# EAGLE library part BRICKBOARD_TSW_14X2 (library Dist_to_Brickboard_Connector)
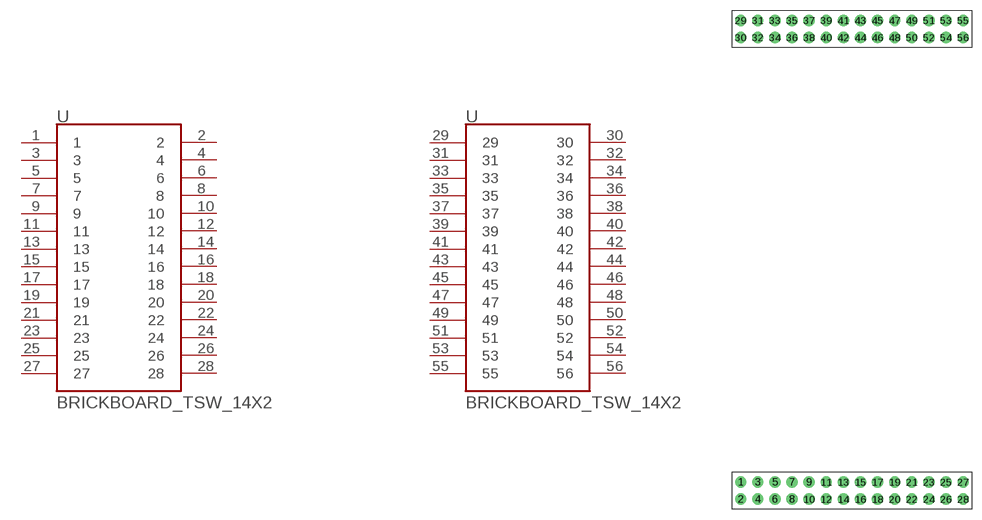
[diagram p0: symbol with the pads of BRICKBOARD_TSW_14X2; footprint BRICKBOARD_TSW_14X2]

Designator prefix -

## BRICKBOARD_TSW_14X2  [BRICKBOARD_TSW_14X2]
1  1
2  2
3  3
4  4
5  5
6  6
7  7
8  8
9  9
10  10
11  11
12  12
13  13
14  14
15  15
16  16
17  17
18  18
19  19
20  20
21  21
22  22
23  23
24  24
25  25
26  26
27  27
28  28
29  29
30  30
31  31
32  32
33  33
34  34
35  35
36  36
37  37
38  38
39  39
40  40
41  41
42  42
43  43
44  44
45  45
46  46
47  47
48  48
49  49
50  50
51  51
52  52
53  53
54  54
55  55
56  56

## Footprint BRICKBOARD_TSW_14X2 (pad centres in mm)
drill 1 pad 1.676: 1 0,2.54; 2 0,0; 3 2.54,2.54; 4 2.54,0; 5 5.08,2.54; 6 5.08,0; 7 7.62,2.54; 8 7.62,0; 9 10.16,2.54; 10 10.16,0; 11 12.7,2.54; 12 12.7,0; 13 15.24,2.54; 14 15.24,0; 15 17.78,2.54; 16 17.78,0; 17 20.32,2.54; 18 20.32,0; 19 22.86,2.54; 20 22.86,0; 21 25.4,2.54; 22 25.4,0; 23 27.94,2.54; 24 27.94,0; 25 30.48,2.54; 26 30.48,0; 27 33.02,2.54; 28 33.02,0; 29 0,71.12; 30 0,68.58; 31 2.54,71.12; 32 2.54,68.58; 33 5.08,71.12; 34 5.08,68.58; 35 7.62,71.12; 36 7.62,68.58; 37 10.16,71.12; 38 10.16,68.58; 39 12.7,71.12; 40 12.7,68.58; 41 15.24,71.12; 42 15.24,68.58; 43 17.78,71.12; 44 17.78,68.58; 45 20.32,71.12; 46 20.32,68.58; 47 22.86,71.12; 48 22.86,68.58; 49 25.4,71.12; 50 25.4,68.58; 51 27.94,71.12; 52 27.94,68.58; 53 30.48,71.12; 54 30.48,68.58; 55 33.02,71.12; 56 33.02,68.58